# EAGLE library part ADV7183B (library IC)
Analog Devices Multiformat SDTV Video Decoder
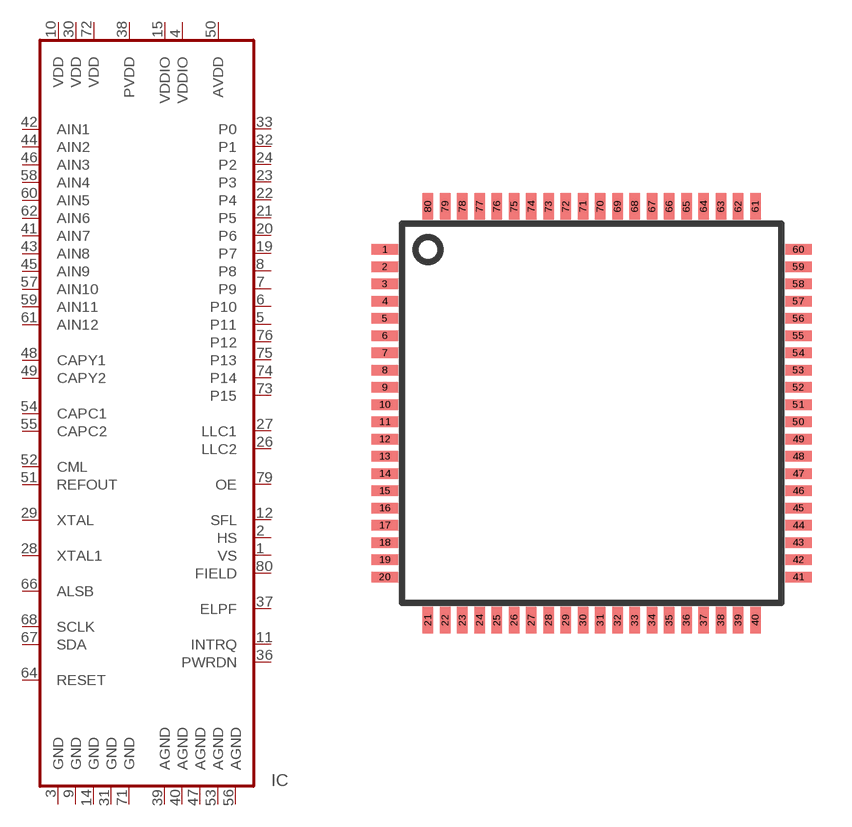
[diagram p71: symbol with the pads of LQFP-80; footprint LQFP-80]

Designator prefix IC

## ADV7183B-LQFP80  [LQFP-80]
1  VS
2  HS
3  GND  pwr
4  VDDIO  pwr
5  P11
6  P10
7  P9
8  P8
9  GND  pwr
10  VDD  pwr
11  INTRQ
12  SFL
14  GND  pwr
15  VDDIO  pwr
19  P7
20  P6
21  P5
22  P4
23  P3
24  P2
26  LLC2
27  LLC1
28  XTAL1
29  XTAL
30  VDD  pwr
31  GND  pwr
32  P1
33  P0
36  PWRDN
37  ELPF
38  PVDD  pwr
39  AGND  pwr
40  AGND  pwr
41  AIN7
42  AIN1
43  AIN8
44  AIN2
45  AIN9
46  AIN3
47  AGND  pwr
48  CAPY1
49  CAPY2
50  AVDD  pwr
51  REFOUT
52  CML
53  AGND  pwr
54  CAPC1
55  CAPC2
56  AGND  pwr
57  AIN10
58  AIN4
59  AIN11
60  AIN5
61  AIN12
62  AIN6
64  RESET
66  ALSB
67  SDA
68  SCLK
71  GND  pwr
72  VDD  pwr
73  P15
74  P14
75  P13
76  P12
79  OE
80  FIELD

## Footprint LQFP-80 (pad centres in mm)
80 pin 16.00mm BSC SQ Low Profile Quad Flat Package
smd 1 x 0.4: 1 -7.8,6.175; 2 -7.8,5.525; 3 -7.8,4.875; 4 -7.8,4.225; 5 -7.8,3.575; 6 -7.8,2.925; 7 -7.8,2.275; 8 -7.8,1.625; 9 -7.8,0.975; 10 -7.8,0.325; 11 -7.8,-0.325; 12 -7.8,-0.975; 13 -7.8,-1.625; 14 -7.8,-2.275; 15 -7.8,-2.925; 16 -7.8,-3.575; 17 -7.8,-4.225; 18 -7.8,-4.875; 19 -7.8,-5.525; 20 -7.8,-6.175; 41 7.8,-6.175; 42 7.8,-5.525; 43 7.8,-4.875; 44 7.8,-4.225; 45 7.8,-3.575; 46 7.8,-2.925; 47 7.8,-2.275; 48 7.8,-1.625; 49 7.8,-0.975; 50 7.8,-0.325; 51 7.8,0.325; 52 7.8,0.975; 53 7.8,1.625; 54 7.8,2.275; 55 7.8,2.925; 56 7.8,3.575; 57 7.8,4.225; 58 7.8,4.875; 59 7.8,5.525; 60 7.8,6.175
smd 0.4 x 1: 21 -6.175,-7.8; 22 -5.525,-7.8; 23 -4.875,-7.8; 24 -4.225,-7.8; 25 -3.575,-7.8; 26 -2.925,-7.8; 27 -2.275,-7.8; 28 -1.625,-7.8; 29 -0.975,-7.8; 30 -0.325,-7.8; 31 0.325,-7.8; 32 0.975,-7.8; 33 1.625,-7.8; 34 2.275,-7.8; 35 2.925,-7.8; 36 3.575,-7.8; 37 4.225,-7.8; 38 4.875,-7.8; 39 5.525,-7.8; 40 6.175,-7.8; 61 6.175,7.8; 62 5.525,7.8; 63 4.875,7.8; 64 4.225,7.8; 65 3.575,7.8; 66 2.925,7.8; 67 2.275,7.8; 68 1.625,7.8; 69 0.975,7.8; 70 0.325,7.8; 71 -0.325,7.8; 72 -0.975,7.8; 73 -1.625,7.8; 74 -2.275,7.8; 75 -2.925,7.8; 76 -3.575,7.8; 77 -4.225,7.8; 78 -4.875,7.8; 79 -5.525,7.8; 80 -6.175,7.8